# Altium schematic symbol library ES1A-E3.SchLib: 1 symbol
Pins are listed as number, name and electrical type; pins without a type are passive.

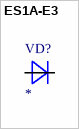
[diagram p0: symbol ES1A-E3]

## ES1A-E3
designator VD?
ES1A Series 50 V 1 A Surface Mount Ultrafast Plastic Rectifier - DO-214AC; MF: Vishay Semiconductor; MP: ES1A-E3/5AT; SnapEDA_Link: https://www.snapeda.com/parts/ES1A-E3/5AT/Vishay/view-part/?ref=snap; Package: DO-214 Vishay Semiconductor; Value: *; Check_prices: https://www.snapeda.com/parts/ES1A-E3/5AT/Vishay/view-part/?ref=eda
footprint DO-214AC
pins: A, C